# Altium schematic symbol library SCH - MCU - TI - TI MSPM0C110X WQFN-20 RUK.SchLib: 1 symbol
Pins are listed as number, name and electrical type; pins without a type are passive.

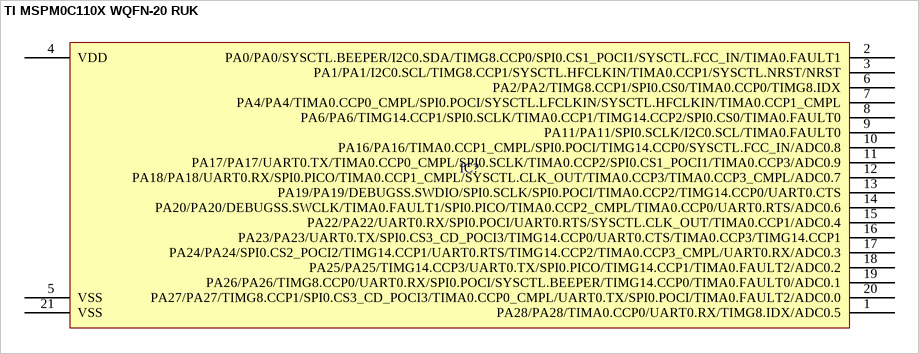
[diagram p0: symbol TI MSPM0C110X WQFN-20 RUK]

## TI MSPM0C110X WQFN-20 RUK
designator IC?
pins: 1 PA28/PA28/TIMA0.CCP0/UART0.RX/TIMG8.IDX/ADC0.5, 2 PA0/PA0/SYSCTL.BEEPER/I2C0.SDA/TIMG8.CCP0/SPI0.CS1_POCI1/SYSCTL.FCC_IN/TIMA0.FAULT1, 3 PA1/PA1/I2C0.SCL/TIMG8.CCP1/SYSCTL.HFCLKIN/TIMA0.CCP1/SYSCTL.NRST/NRST, 4 VDD, 5 VSS, 6 PA2/PA2/TIMG8.CCP1/SPI0.CS0/TIMA0.CCP0/TIMG8.IDX, 7 PA4/PA4/TIMA0.CCP0_CMPL/SPI0.POCI/SYSCTL.LFCLKIN/SYSCTL.HFCLKIN/TIMA0.CCP1_CMPL, 8 PA6/PA6/TIMG14.CCP1/SPI0.SCLK/TIMA0.CCP1/TIMG14.CCP2/SPI0.CS0/TIMA0.FAULT0, 9 PA11/PA11/SPI0.SCLK/I2C0.SCL/TIMA0.FAULT0, 10 PA16/PA16/TIMA0.CCP1_CMPL/SPI0.POCI/TIMG14.CCP0/SYSCTL.FCC_IN/ADC0.8, 11 PA17/PA17/UART0.TX/TIMA0.CCP0_CMPL/SPI0.SCLK/TIMA0.CCP2/SPI0.CS1_POCI1/TIMA0.CCP3/ADC0.9, 12 PA18/PA18/UART0.RX/SPI0.PICO/TIMA0.CCP1_CMPL/SYSCTL.CLK_OUT/TIMA0.CCP3/TIMA0.CCP3_CMPL/ADC0.7, 13 PA19/PA19/DEBUGSS.SWDIO/SPI0.SCLK/SPI0.POCI/TIMA0.CCP2/TIMG14.CCP0/UART0.CTS, 14 PA20/PA20/DEBUGSS.SWCLK/TIMA0.FAULT1/SPI0.PICO/TIMA0.CCP2_CMPL/TIMA0.CCP0/UART0.RTS/ADC0.6, 15 PA22/PA22/UART0.RX/SPI0.POCI/UART0.RTS/SYSCTL.CLK_OUT/TIMA0.CCP1/ADC0.4, 16 PA23/PA23/UART0.TX/SPI0.CS3_CD_POCI3/TIMG14.CCP0/UART0.CTS/TIMA0.CCP3/TIMG14.CCP1, 17 PA24/PA24/SPI0.CS2_POCI2/TIMG14.CCP1/UART0.RTS/TIMG14.CCP2/TIMA0.CCP3_CMPL/UART0.RX/ADC0.3, 18 PA25/PA25/TIMG14.CCP3/UART0.TX/SPI0.PICO/TIMG14.CCP1/TIMA0.FAULT2/ADC0.2, 19 PA26/PA26/TIMG8.CCP0/UART0.RX/SPI0.POCI/SYSCTL.BEEPER/TIMG14.CCP0/TIMA0.FAULT0/ADC0.1, 20 PA27/PA27/TIMG8.CCP1/SPI0.CS3_CD_POCI3/TIMA0.CCP0_CMPL/UART0.TX/SPI0.POCI/TIMA0.FAULT2/ADC0.0, 21 VSS